# EAGLE library part 648110131822 (library WR-WTB)
WR-WTB 1.50 mm SMT Male Horizontal Shrouded Header Material Properties Insulator Material PA6T Insulator Flammability Rating UL94 V-0 Color Ivory Contact Material Copper Alloy Contact Plating Tin Contact Type Stamped Certification UL Approval E323964 General Information Operating Temperature -25 °C up to +85 °C Compliance RoHS IR 1 A Working Voltage 50 V (AC) Withstanding Voltage 500 V (AC) Contact Resistance 20 mΩ RISO 500 MΩ Pitch 1.5 mm Gender Male Type Horizontal Packaging Properties Packaging Tape and Reel <https://www.we-online.com/components/media/o33368v209%20Multi-WR-WTB150-6481xx131822.jpg> Details see: www.we-online.com/en/components/products/WTB_1_50_SMT_MALE_HORIZONTAL_SHROUDED_HEADER_6481XX131822 <www.we-online.com/catalog/WTB_1_50_SMT_MALE_HORIZONTAL_SHROUDED_HEADER_6481XX131822/?utm_source=eagle_model&utm_medium=description_link&utm_campaign=eisos_eagle> Updated by Ella 2025-03-06 2025 (C) Würth Elektronik
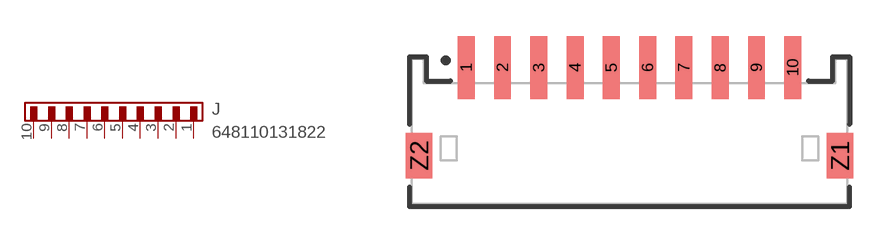
[diagram p74: symbol with the pads of 648110131822; footprint 648110131822]

Designator prefix J

## 648110131822 (CONTACT-RESISTANCE: 20mOhm; DATASHEET-URL: https://www.we-online.com/redexpert/spec/648110131822?ae; GENDER: Male; IR: 1A; L: 18mm; MOUNT: SMT; PACKAGING: Tape and Reel; PART-NUMBER: 648110131822; PCB-CABLE-PANEL: PCB; PINS: 10; PITCH: 1.5mm; TYPE: Horizontal; VALUE: 648110131822; WORKING-VOLTAGE: 50V(AC))  [648110131822]
1  1  pas
2  2  pas
3  3  pas
4  4  pas
5  5  pas
6  6  pas
7  7  pas
8  8  pas
9  9  pas
10  10  pas

## Footprint 648110131822 (pad centres in mm)
WR-WTB 1.50 mm SMT Male Horizontal Shrouded Header, 10 Pins
smd 0.7 x 2.6: 1 -6.75,2.65; 2 -5.25,2.65; 3 -3.75,2.65; 4 -2.25,2.65; 5 -0.75,2.65; 6 0.75,2.65; 7 2.25,2.65; 8 3.75,2.65; 9 5.25,2.65; 10 6.75,2.65
smd 1.1 x 1.9: Z1 8.7,-1; Z2 -8.7,-1